# EAGLE library part 750311019 (library WE-FLYLT)
WE-FLYLT Flyback Transformers for Linear Technology Characteristics Characteristics Low leakage inductance High saturation current for low-power, DC/DC transformers Self-shielding and space efficient Functional insulation Isolation voltage: Up to 1875VAC at 1 second Lead free and RoHS compliant Operating temp: -40°C to 125°C Package sizes: EP7, EP10, EP13 and ETD34 Designed to meet IEC/UL/EN60950-1 Applications Industrial & medical power supplies Isolated auxiliary/housekeeping power supplies Isolated DC/DC supplies Home automation <https://www.we-online.com/catalog/media/o718711v209%20family-WE-UtFLYLT.jpg> Details see: www.we-online.com/catalog/WE-FLYLT <www.we-online.com/catalog/WE-FLYLT/?utm_source=eagle_model&utm_medium=description_link&utm_campaign=eisos_eagle> Created by Ella Wu 2022-11-17 2022 (C) Wurth Elektronik
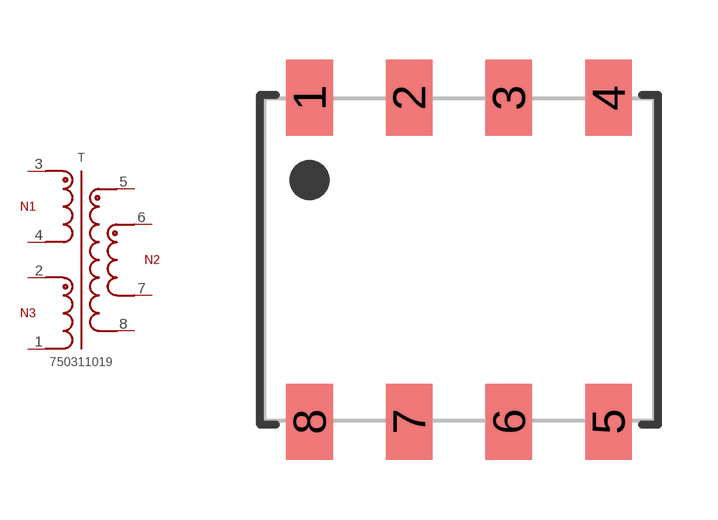
[diagram p22: symbol with the pads of WE-FLYLT_EP7_4436; footprint WE-FLYLT_EP7_4436]

Designator prefix T

## 750311019 (DATASHEET-URL: https://www.we-online.com/redexpert/spec/750311019?ae; IC-REFERENCE: LT8300; IOUT1: 600mA; ISAT: 0.75A; L: 400uH; LS: 8uH; MOUNT: SMT; N: 6:1:2; PART-NUMBER: 750311019; SIZE: EP7; VALUE: 750311019; VAUX: 6.6V; VIN: 35 - 75 V (DC); VOUT1: 3.3V; VT: 1500V (AC))  [WE-FLYLT_EP7_4436]
1  1  pas
2  2  pas
3  3  pas
4  4  pas
5  5  pas
6  6  pas
7  7  pas
8  8  pas

## Footprint WE-FLYLT_EP7_4436 (pad centres in mm)
WE-FLYLT Flyback Transformers for Linear Technology Size:EP7,SMT,8pins Bobbin: 070-4436
smd 1.17 x 1.91: 1 -3.75,4.065; 2 -1.25,4.065; 3 1.25,4.065; 4 3.75,4.065; 5 3.75,-4.065; 6 1.25,-4.065; 7 -1.25,-4.065; 8 -3.75,-4.065